# Altium schematic symbol library Microcircuits.SchLib: 9 symbols
Pins are listed as number, name and electrical type; pins without a type are passive.

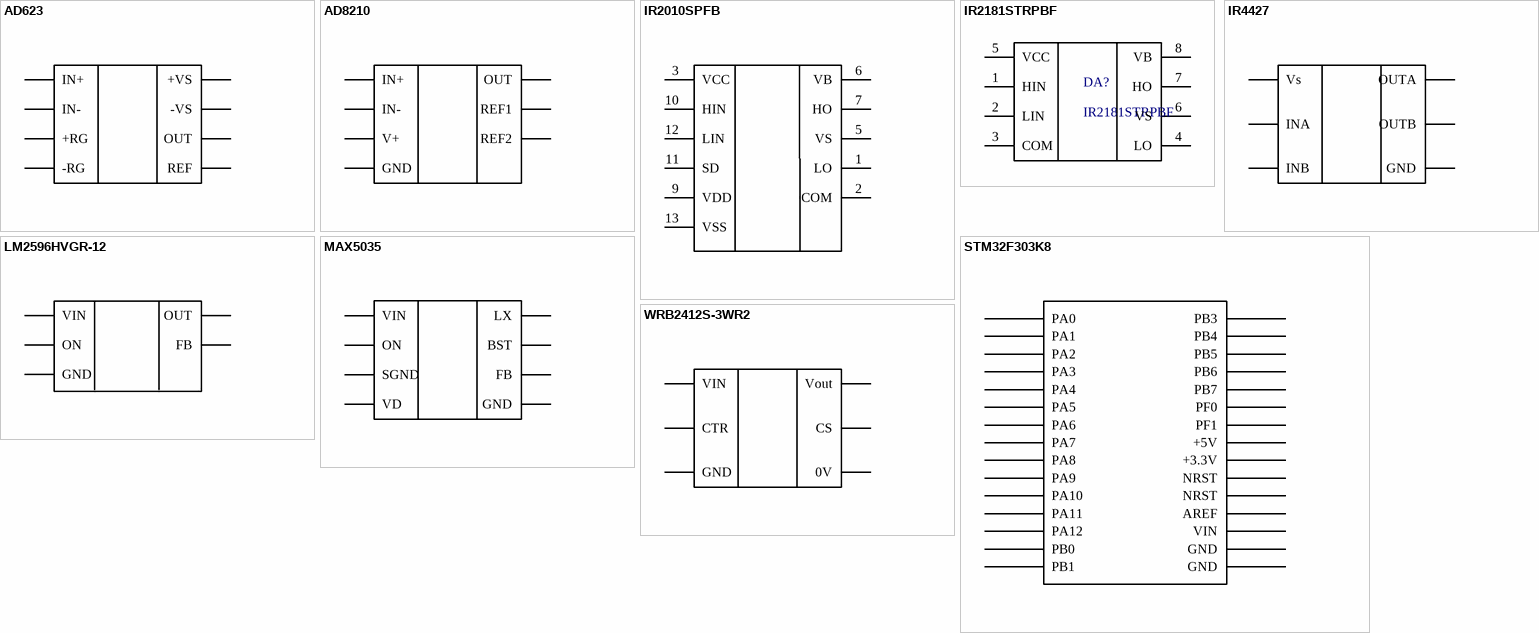
[diagram p0: symbols AD623 to WRB2412S-3WR2]

## AD623
designator DA?
ComponentLink1Description: Product link; ComponentLink1URL: https://www.chipdip.ru/product/ad623armz-2
footprint SO8
pins: 1 -RG, 2 IN-, 3 IN+, 4 -VS, 5 REF, 6 OUT, 7 +VS, 8 +RG

## AD8210
designator DA?, comment AD8210YRZ
ComponentLink1Description: Product link; ComponentLink1URL: https://www.chipdip.ru/product/ad8210yrz; Datasheet: https://static.chipdip.ru/lib/693/DOC011693392.pdf
footprint SO8
pins: 1 IN-, 2 GND, 3 REF2, 5 OUT, 6 V+, 7 REF1, 8 IN+

## IR2010SPFB
designator DA?, comment IR2010PFB
ComponentLink1Description: Product link; ComponentLink1URL: https://www.chipdip.ru/product/ir2010s
footprint SOIC16
footprint DIP14
pins: 1 LO, 2 COM, 3 VCC, 5 VS, 6 VB, 7 HO, 9 VDD, 10 HIN, 11 SD, 12 LIN, 13 VSS

## IR2181STRPBF
designator DA?
ComponentLink1Description: Product link; ComponentLink1URL: https://www.chipdip.ru/product/ir2181strpbf-h-l-driver-600
footprint SO8
pins: 1 HIN, 2 LIN, 3 COM, 4 LO, 5 VCC, 6 VS, 7 HO, 8 VB

## IR4427
designator DD?, comment IR4427PBF
ComponentLink1Description: Product link; ComponentLink1URL: https://www.promelec.ru/product/86311/
footprint DIP8
pins: 2 INA, 3 GND, 4 INB, 5 OUTB, 6 Vs, 7 OUTA

## LM2596HVGR-12
designator DA?
ComponentLink1Description: Product link; ComponentLink1URL: https://www.chipdip.ru/product/lm2596hvgr-12
footprint TO263-5L
pins: 1 VIN, 2 OUT, 3 GND, 4 FB, 5 ON

## MAX5035
designator DA?
ComponentLink1Description: Product link; ComponentLink1URL: https://www.chipdip.ru/product/max5035basa
footprint SO8
pins: 1 BST, 2 VD, 3 SGND, 4 FB, 5 ON, 6 GND, 7 VIN, 8 LX

## STM32F303K8
designator DD?, comment STM32F303K8-nucleo32
ComponentLink1Description: Product link
footprint nucleo-32
pins: 1 PA9, 2 PA10, 3 NRST, 4 GND, 5 PA12, 6 PB0, 7 PB7, 8 PB6, 9 PB1, 10 PF0, 11 PF1, 12 PA8, 13 PA11, 14 PB5, 15 PB4, 16 VIN, 17 GND, 18 NRST, 19 +5V, 20 PA2, 21 PA7, 22 PA6, 23 PA5, 24 PA4, 25 PA3, 26 PA1, 27 PA0, 28 AREF, 29 +3.3V, 30 PB3

## WRB2412S-3WR2
designator DD?
ComponentLink1Description: Product link; ComponentLink1URL: https://www.chipdip.ru/product/stps2h100a-2
footprint WRB_S-3WR2
pins: 1 GND, 2 VIN, 3 CTR, 6 Vout, 7 0V, 8 CS